# EAGLE library part MIC4606 (library my-eagle-lib)
MIC4606 Half Bridge Driver Robust ttl Half bridge MOSFET driver. Features - 5.5V to 16V Gate Drive Supply Voltage Range - Drives High-Side and Low-Side N-Channel MOSFETs with Independent Inputs - TTL Input Thresholds - On-Chip Bootstrap Diode - Fast 39 ns Propagation Times - Drives 1000 pF Load with 20 ns Rise and Fall Times - Low Power Consumption - Supplies Undervoltage Protection - –40°C to +125°C Junction Temperature Range Datasheets <http://ww1.microchip.com/downloads/en/DeviceDoc/20005852A.pdf> Package from here <https://github.com/open-ephys/eagle-libraries> DigiKey Buy Link <https://www.digikey.com/en/product-highlight/m/micrel/mic4604-mosfet-drivers>
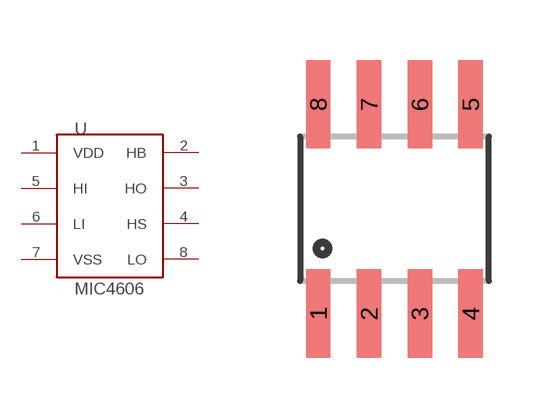
[diagram p0: symbol with the pads of SOIC-8; footprint SOIC-8]

Designator prefix -

## MIC4606  [SOIC-8]
1  VDD
2  HB
3  HO
4  HS
5  HI
6  LI
7  VSS
8  LO

## Footprint SOIC-8 (pad centres in mm)
smd 0.61 x 2.21: 1 -1.905,-2.616; 2 -0.635,-2.616; 3 0.635,-2.616; 4 1.905,-2.616; 5 1.905,2.616; 6 0.635,2.616; 7 -0.635,2.616; 8 -1.905,2.616